# EAGLE library part GY-521_MPUP6050 (library Parts)
MPU6050
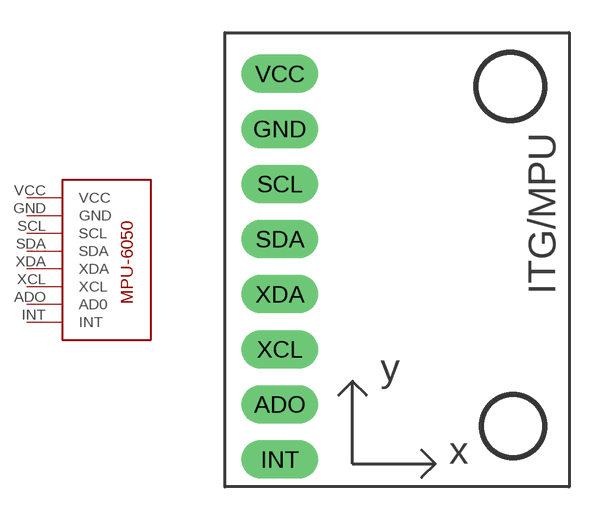
[diagram p0: symbol with the pads of GY-521; footprint GY-521]

Designator prefix -

## GY-521_MPUP6050  [GY-521]
ADO  AD0
GND  GND  pwr
INT  INT
SCL  SCL
SDA  SDA
VCC  VCC  pwr
XCL  XCL
XDA  XDA

## Footprint GY-521 (pad centres in mm)
drill 0.8 pad 1.778 long: ADO -5.49,-7.15; GND -5.49,5.55; INT -5.49,-9.69; SCL -5.49,3.01; SDA -5.49,0.47; VCC -5.49,8.09; XCL -5.49,-4.61; XDA -5.49,-2.07